# Altium footprint library PCB - LEADLESS - DFN - DIODES X2-DFN1410-6 1.4x1.0MM.PcbLib: 1 footprints
Each footprint in its own frame and in the unit in brackets; x right, y up, seen from the top. Pads: shape width x height; smd on the part's side, far side on the other; paste and mask are expansions set on the pad; w line width, h text height; cw(c..) or ccw(c..) is an arc to the next point about the centre after c.
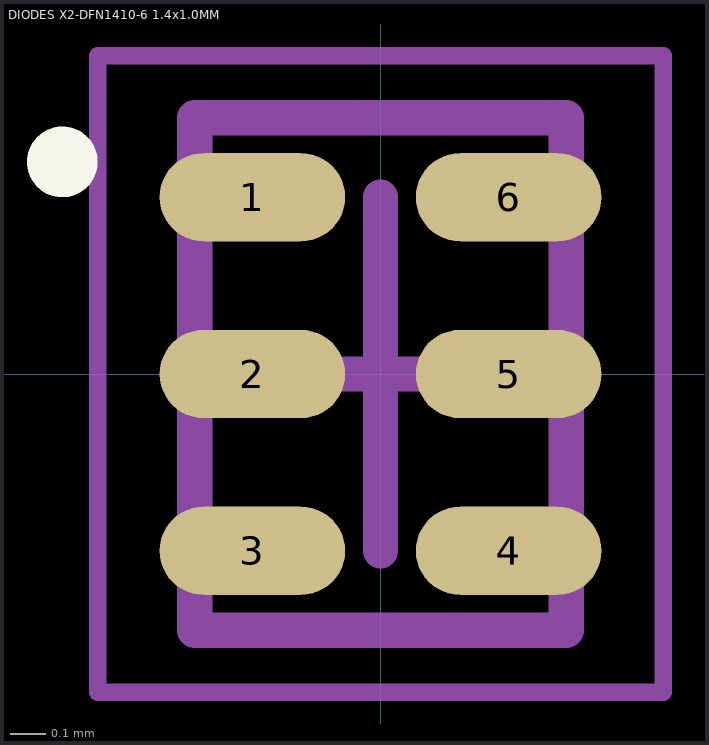
[diagram p0: the footprint, top view; thin cyan lines are the x and y axes]

## DIODES X2-DFN1410-6 1.4x1.0MM [mm] "DFN, 6-Leads, Body 1.40x1.00mm, Pitch 0.50mm"
height 0.4
pads (6):
  oval 0.525x0.25 smd: 1(-0.362,0.5) 2(-0.362,0) 3(-0.362,-0.5) 4(0.363,-0.5) 5(0.363,0) 6(0.363,0.5)
Top Overlay:
  circle w0.1: c-0.9,0.6 r0.05
Mechanical 13:
  lines w0.1: -0.525,-0.725 0.525,-0.725 0.525,0.725 -0.525,0.725 -0.525,-0.725
Mechanical 15:
  lines w0.05: -0.8,-0.9 0.8,-0.9 0.8,0.9 -0.8,0.9 -0.8,-0.9
  lines w0.1: -0.5,0 0.5,0 ; 0,-0.5 0,0.5
3D body "DIODES X2-DFN1410-6 1.4x1.0MM.step": height 0.4, standoff 0, extent -0.525,-0.725 0.525,0.725